# Altium schematic symbol library ICS_DIVERSOS.SchLib: 48 symbols (part 1 of 3)
Pins are listed as number, name and electrical type; pins without a type are passive.

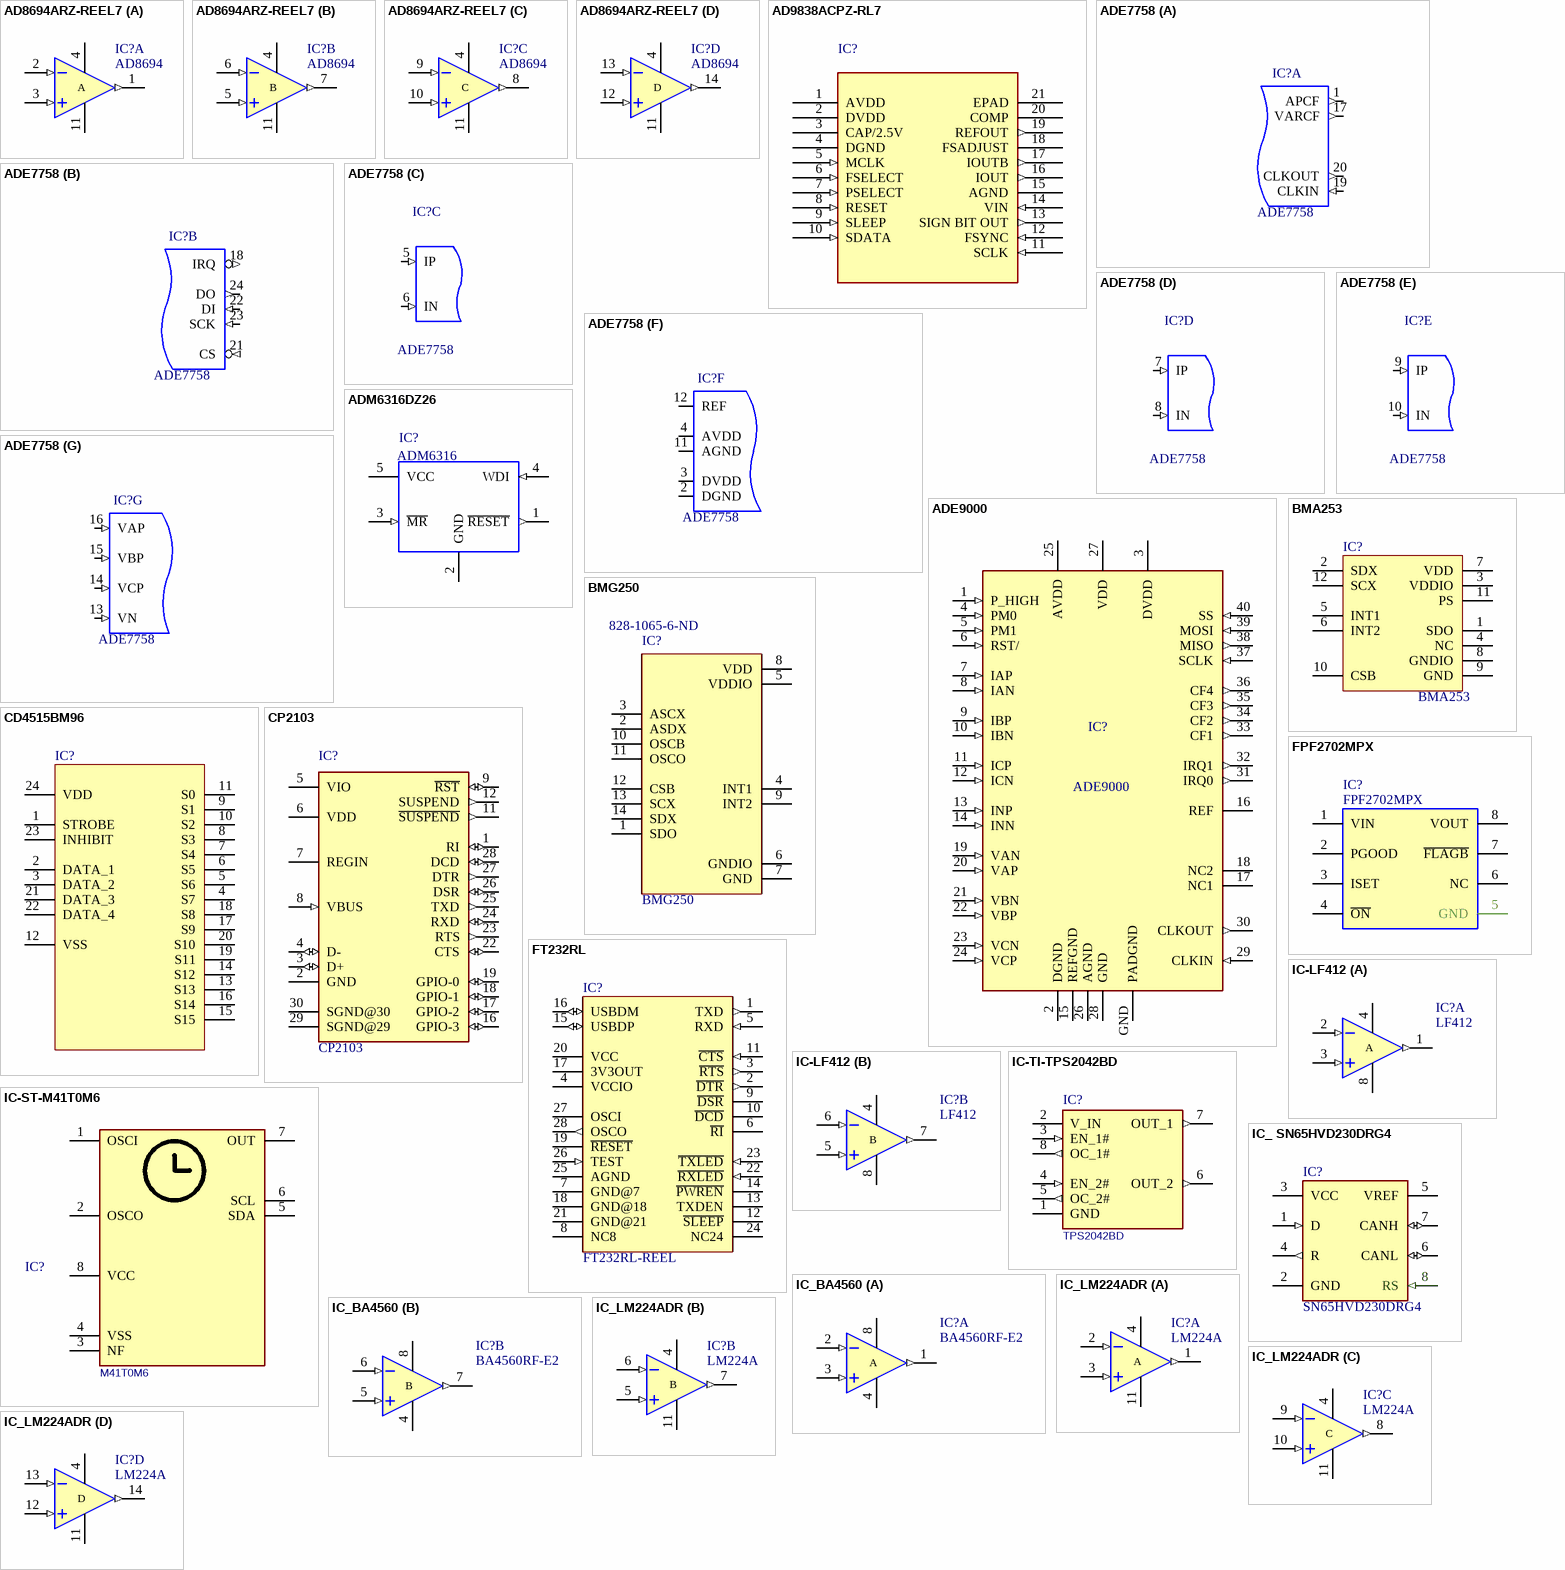
[diagram p0: symbols AD8694ARZ-REEL7 to IC_LM224ADR]

## AD8694ARZ-REEL7
designator IC?, comment AD8694
IC OPAMP GP 10MHZ RRO 14SOIC; MPN: AD8694ARZ-REEL7; Manufacturer: Analog Devices; Fabricante: ANALOG DEVICE; Min Supply Voltage: 2.7V; Max Supply Voltage: 6V; Common Mode Rejection Ratio: 90dB; Slew Rate: 5V/µs; Number of Circuits: 4; Input Bias Current: 1pA; Input Offset Voltage (Vos): 2mV; Operating Supply Current: 4.8mA; Output Current per Channel: 80mA; Input Voltage Noise Density: 8nV/sqrt Hz; Power Supply Rejection Ratio (PSRR): 95dB; Voltage Gain: 103.52dB; Quiescent Current: 950uA; Input Capacitance: 5pF; Settling Time: 1us; Footprint: NB SOIC 14; value: AD8694; ComponentLink1Description: datasheet; ComponentLink1URL: http://www.ti.com/lit/ds/symlink/lm324.pdf; ComponentLink2Description: LOJA; ComponentLink2URL: https://www.digikey.com/product-detail/en/analog-devices-inc/AD8694ARZ-REEL7/AD8694ARZ-REEL7CT-ND/4908801; Supplier 1: Digi-Key; Supplier Part Number 1: AD8694ARZ-REEL7CT-ND; Manufacturer Part Number: AD8694ARZ-REEL7; Stock 1: 729; Pricing 1: 1=2,80000, 10=2,51800, 25=2,37520, 100=1,90000, 250=1,66252, 500=1,61500 (USD); RoHS: Yes; Case/Package: R; Number of Pins: 14; Contact Plating: Tin,Matte; Min Operating Temperature: -40°C; Max Operating Temperature: 125°C; Gain Bandwidth Product: 10MHz; Package Quantity: 1000; Packaging: Tape and Reel; Unity Gain Bandwidth Product: 10MHz; Number of Channels: 4; Number of Elements: 4; Number of Amplifiers: 4; Radiation Hardening: No; Lead Free: Contains Lead; ComponentLink3URL: https://datasheet.ciiva.com/26846/ad8694arz-reel7-26846943.pdf?src-supplier=IIIC; ComponentLink3Description: https://datasheet.ciiva.com/26846/ad8694arz-reel7-26846943.pdf?src-supplier=IIIC; ComponentLink4URL: https://datasheet.ciiva.com/9043/ad8691-8692-8694-9043862.pdf?src-supplier=Avnet; ComponentLink4Description: https://datasheet.ciiva.com/9043/ad8691-8692-8694-9043862.pdf?src-supplier=Avnet; ComponentLink5URL: https://datasheet.ciiva.com/11712/ad8691-8692-8694-11712005.pdf?src-supplier=Avnet; ComponentLink5Description: https://datasheet.ciiva.com/11712/ad8691-8692-8694-11712005.pdf?src-supplier=Avnet
footprint NB SOIC-14 (SOIC, 14-Leads, Body 8.65x3.90mm, Pitch 1.27mm, IPC Medium Density)
part A pins: 1 1OUT (out), 2 1IN- (in), 3 1IN+ (in), 4 VDD (power), 11 VSS (power)
part B pins: 4 VDD (power), 5 2IN+ (in), 6 2IN- (in), 7 2OUT (out), 11 VSS (power)
part C pins: 4 VDD (power), 8 3OUT (out), 9 3IN- (in), 10 3IN+ (in), 11 VSS (power)
part D pins: 4 VDD (power), 11 VSS (power), 12 4IN+ (in), 13 4IN- (in), 14 4OUT (out)
part A text: A
part B text: B
part C text: C
part D text: D

## AD9838ACPZ-RL7
designator IC?  (value not drawn)
IC DDS 5MHZ 10BIT 20LFCSP; Manufacturer: Analog Devices; FABRICANTE: Analog Devices Inc; Number of Converters: 1; Resolution: 10b; Frequency: 16MHz; Signal to Noise Ratio (SNR): -63dB; Operating Supply Voltage: 5V; Power Dissipation: 11mW; Min Supply Voltage: 2.3V; Max Supply Voltage: 5.5V; Nominal Output Voltage: 600mV; Max Supply Current: 7mA; MPN: AD9838ACPZ-RL7; VALUE: AD9838ACPZ-RL7; Supplier 1: Digi-Key; Manufacturer Part Number: AD9838ACPZ-RL7; Stock 1: 1606; Pricing 1: 1=5,57000, 10=4,99800, 25=4,72520, 100=4,09500, 250=3,88500, 500=3,48600 (USD); RoHS: Yes; Mount: Surface Mount; Case/Package: LFCSP EP; Number of Pins: 20; Min Operating Temperature: -40°C; Max Operating Temperature: 85°C; Max Frequency: 5MHz; Packaging: Tape and Reel; Package Quantity: 1500; Number of Outputs: 1; Number of D/A Converters: 1; REACH SVHC: No SVHC; Lead Free: Contains Lead; ComponentLink1URL: https://datasheet.ciiva.com/8306/ad9838-8306288.pdf?src-supplier=Avnet; ComponentLink1Description: https://datasheet.ciiva.com/8306/ad9838-8306288.pdf?src-supplier=Avnet; ComponentLink2URL: https://datasheet.ciiva.com/24018/ad9838-259387-24018848.pdf?src-supplier=Mouser; ComponentLink2Description: https://datasheet.ciiva.com/24018/ad9838-259387-24018848.pdf?src-supplier=Mouser; ComponentLink3URL: https://datasheet.ciiva.com/18624/ad9838-18624901.pdf?src-supplier=Digi-Key; ComponentLink3Description: https://datasheet.ciiva.com/18624/ad9838-18624901.pdf?src-supplier=Digi-Key; Supplier Part Number 1: AD9838ACPZ-RL7CT-ND
footprint CP_20_10
pins: 1 AVDD (power), 2 DVDD (power), 3 CAP/2.5V, 4 DGND, 5 MCLK (in), 6 FSELECT (in), 7 PSELECT (in), 8 RESET (in), 9 SLEEP (in), 10 SDATA (in), 11 SCLK (in), 12 FSYNC (in), 13 SIGN BIT OUT (out), 14 VIN (in), 15 AGND, 16 IOUT (out), 17 IOUTB (out), 18 FSADJUST, 19 REFOUT (out), 20 COMP, 21 EPAD

## ADE7758
designator IC?
MEDIDOR DE ENERGIA 3PH - SOIC 24; Manufacturer: Analog Devices / Linear Technology; Manufacturer Part Number: LTC4100EG#TRPBF; Fabricante: ANALOG DEVICE; Interface: I2C; Min Supply Voltage: 3V; Max Supply Voltage: 5.5V; Output Voltage: 26V; Output Current: 4A; Max Input Voltage: 28V; Min Input Voltage: 6V; Number of Cells: 1; Fault Protection: Over Current,Over Voltage; Footprint: SOIC24; MPN: ADE7758; Value: ADE7758; RoHS: Yes; Case/Package: G; Number of Pins: 24; Min Operating Temperature: -40°C; Max Operating Temperature: 85°C; Packaging: Tape and Reel; Package Quantity: 1800; Max Charge Current: 4A; Radiation Hardening: No; Lead Free: Lead Free; ComponentLink1URL: https://datasheet.ciiva.com/1934/3155-1934145.pdf?src-supplier=Digi-Key; ComponentLink1Description: https://datasheet.ciiva.com/1934/3155-1934145.pdf?src-supplier=Digi-Key
footprint SOIC24
part A pins: 1 APCF (out), 17 VARCF (out), 19 CLKIN (in), 20 CLKOUT (out)
part B pins: 18 IRQ (out), 21 CS (in), 22 DI (in), 23 SCK (in), 24 DO (out)
part C pins: 5 IP (in), 6 IN (in)
part D pins: 7 IP (in), 8 IN (in)
part E pins: 9 IP (in), 10 IN (in)
part F pins: 2 DGND (power), 3 DVDD (power), 4 AVDD (power), 11 AGND (power), 12 REF (io)
part G pins: 13 VN (in), 14 VCP (in), 15 VBP (in), 16 VAP (in)

## ADE9000
designator IC?
ADI IC, Power Quality Monitoring AFE; Manufacturer Part Number: ADE9000ACPZ; Fabricante: Analog Devices; Number of Channels: 7; Footprint: LFCS40; MPN: ADE9000; Value: ADE9000; ComponentLink1Description: DATASHEET; ComponentLink1URL: https://www.analog.com/media/en/technical-documentation/data-sheets/ADE9000.pdf; ComponentLink2Description: LOJA; ComponentLink2URL: https://www.digikey.com/product-detail/en/analog-devices-inc/ADE9000ACPZ-RL/ADE9000ACPZ-RLCT-ND/6708825; Supplier 1: Digi-Key; Supplier Part Number 1: ADE9000ACPZ-ND; Manufacturer: Analog Devices; Stock 1: 60; Pricing 1: 1=13,42000, 10=12,33300, 25=11,82160, 100=9,90450, 250=9,26552 (USD); RoHS: No; Number of Pins: 40; Packaging: Tray; ComponentLink3URL: http://www.farnell.com/datasheets/2280571.pdf?src-supplier=Farnell; ComponentLink3Description: http://www.farnell.com/datasheets/2280571.pdf?src-supplier=Farnell; ComponentLink4URL: https://www.analog.com/media/en/technical-documentation/data-sheets/ADE9000.pdf?src-supplier=Digi-Key; ComponentLink4Description: https://www.analog.com/media/en/technical-documentation/data-sheets/ADE9000.pdf?src-supplier=Digi-Key
footprint LFCSP40
pins: 1 P_HIGH (in), 2 DGND (power), 3 DVDD (power), 4 PM0 (in), 5 PM1 (in), 6 RST/ (in), 7 IAP (in), 8 IAN (in), 9 IBP (in), 10 IBN (in), 11 ICP (in), 12 ICN (in), 13 INP (in), 14 INN (in), 15 REFGND (power), 16 REF (power), 17 NC1, 18 NC2, 19 VAN (in), 20 VAP (in), 21 VBN (in), 22 VBP (in), 23 VCN (in), 24 VCP (in), 25 AVDD (power), 26 AGND (power), 27 VDD (power), 28 GND (power), 29 CLKIN (in), 30 CLKOUT (out), 31 IRQ0 (out), 32 IRQ1 (out), 33 CF1 (out), 34 CF2 (out), 35 CF3 (out), 36 CF4 (out), 37 SCLK (in), 38 MISO (out), 39 MOSI (in), 40 SS (in), GND PADGND (power)

## ADM6316DZ26
designator IC?, comment ADM6316
Supervisory Circuits with Watchdog and Manual Reset in 5-Lead SOT-23; MPN: ADM6316DZ26; Manufacturer: Analog Devices; Manufacturer Part Number: ADM6316DZ26ARJZ-R7; Fabricante: ANALOG DEVICE; Value: ADM6316DZ26; Min Supply Voltage: 1V; Max Supply Voltage: 5.5V; Watchdog Timer: Yes; Max Reset Threshold Voltage: 2.669V; Min Reset Threshold Voltage: 2.591V; Max Supply Current: 20uA; Threshold Voltage: 2.63V; Number of Monitored Inputs: 1; Reset Delay Time: 2240ms; Reset: Active Low; Reset Timeout: 1.12s; Footprint: SOT-23-5; Supplier 1: Digi-Key; Supplier Part Number 1: ADM6316DZ26ARJZ-R7CT-ND; Stock 1: 3454; Pricing 1: 1=1,53000, 10=1,37800, 25=1,30000, 100=1,04000, 250=0,91000, 500=0,88400, 1000=0,75400 (USD); RoHS: Yes; Mount: Surface Mount; Case/Package: SOT; Number of Pins: 5; Min Operating Temperature: -40°C; Max Operating Temperature: 85°C; Package Quantity: 3000; Packaging: Tape and Reel; Nominal Supply Current: 20uA; Operating Supply Current: 20uA; Overvoltage Threshold: 2.669V; Undervoltage Threshold: 2.591V; Number of Elements: 1; Type: Simple Reset/Power-On Reset; Number of Voltages Monitored: 1; Radiation Hardening: No; Lead Free: Contains Lead; REACH SVHC: No SVHC; ComponentLink1URL: https://datasheet.ciiva.com/1969/adm6316-6317-6318-6319-6320-6321-6322-1969888.pdf?src-supplier=Digi-Key; ComponentLink1Description: https://datasheet.ciiva.com/1969/adm6316-6317-6318-6319-6320-6321-6322-1969888.pdf?src-supplier=Digi-Key; ComponentLink2URL: https://datasheet.ciiva.com/15106/getdatasheetpartid-711562-15106688.pdf?src-supplier=Verical; ComponentLink2Description: https://datasheet.ciiva.com/15106/getdatasheetpartid-711562-15106688.pdf?src-supplier=Verical; ComponentLink3URL: https://datasheet.ciiva.com/1969/adm6316-6317-6318-6319-6320-6321-6322-1969889.pdf?src-supplier=Digi-Key; ComponentLink3Description: https://datasheet.ciiva.com/1969/adm6316-6317-6318-6319-6320-6321-6322-1969889.pdf?src-supplier=Digi-Key; ComponentLink4URL: https://datasheet.ciiva.com/22666/1901161-22666261.pdf?src-supplier=Element14; ComponentLink4Description: https://datasheet.ciiva.com/22666/1901161-22666261.pdf?src-supplier=Element14; ComponentLink5URL: https://datasheet.ciiva.com/8133/adm6316-6317-6318-6319-6320-6321-6322-8133030.pdf?src-supplier=Avnet; ComponentLink5Description: https://datasheet.ciiva.com/8133/adm6316-6317-6318-6319-6320-6321-6322-8133030.pdf?src-supplier=Avnet; ComponentLink6URL: https://datasheet.ciiva.com/8133/adm6316-6317-6318-6319-6320-6321-6322-8133032.pdf?src-supplier=Avnet; ComponentLink6Description: https://datasheet.ciiva.com/8133/adm6316-6317-6318-6319-6320-6321-6322-8133032.pdf?src-supplier=Avnet; ComponentLink7URL: https://datasheet.ciiva.com/1969/adm6316-6317-6318-6319-6320-6321-6322-1969887.pdf?src-supplier=Digi-Key; ComponentLink7Description: https://datasheet.ciiva.com/1969/adm6316-6317-6318-6319-6320-6321-6322-1969887.pdf?src-supplier=Digi-Key; ComponentLink8URL: https://datasheet.ciiva.com/48695/001250226-da-01-en-ic-super-adm6316dz26arjz-r7-sot-23-5-adi-48695991.pdf?src-supplier=Conrad; ComponentLink8Description: https://datasheet.ciiva.com/48695/001250226-da-01-en-ic-super-adm6316dz26arjz-r7-sot-23-5-adi-48695991.pdf?src-supplier=Conrad
footprint SOT23-5 (SOT23, 5-Leads, Body 2,90x2,80mm, Pitch 0,95mm, IPC Medium Density)
pins: 1 ~{RESET} (out), 2 GND (power), 3 ~{MR} (in), 4 WDI (in), 5 VCC (power)

## BMA253
designator IC?
Accelerometer X, Y, Z Axis ±2g, 4g, 8g, 16g 8Hz ~ 1kHz 12-LGA (2x2); Manufacturer: Bosch Sensortec; MF: Bosch; Output Type: SPI,I2C; Axis: X, Y, Z; ComponentLink1Description: LOJA; ComponentLink1URL: https://www.digikey.com/product-detail/en/bosch-sensortec/BMA253/828-1071-1-ND/7164923; ComponentLink2Description: DATASHHET; ComponentLink2URL: https://ae-bst.resource.bosch.com/media/_tech/media/datasheets/BST-BMA253-DS000.pdf; Footprint: 12-LGA (2x2); MP: BMA253; Value: *; Supplier 1: Digi-Key; Supplier Part Number 1: 828-1071-1-ND; Manufacturer Part Number: BMA253; Stock 1: 72621; Pricing 1: 1=1,90000, 5=1,83200, 10=1,48800, 25=1,28200, 50=1,11040, 100=1,00730, 500=0,84706, 1000=0,75549, 5000=0,69300 (USD); RoHS: No; Mount: Surface Mount; Case/Package: LGA; Number of Pins: 12; Min Operating Temperature: -40°C; Max Operating Temperature: 85°C; Packaging: Tape and Reel; Bandwidth: 8Hz; ComponentLink3URL: https://ae-bst.resource.bosch.com/media/_tech/media/application_notes/BST-MAS-HS000-05.pdf?src-supplier=Digi-Key; ComponentLink3Description: https://ae-bst.resource.bosch.com/media/_tech/media/application_notes/BST-MAS-HS000-05.pdf?src-supplier=Digi-Key; ComponentLink4URL: https://ae-bst.resource.bosch.com/media/_tech/media/application_notes/BST-MAS-HS000.pdf?src-supplier=Digi-Key; ComponentLink4Description: https://ae-bst.resource.bosch.com/media/_tech/media/application_notes/BST-MAS-HS000.pdf?src-supplier=Digi-Key
footprint 12-LGA(2X2)
pins: 1 SDO, 2 SDX, 3 VDDIO (power), 4 NC, 5 INT1, 6 INT2, 7 VDD (power), 8 GNDIO (power), 9 GND (power), 10 CSB, 11 PS, 12 SCX

## BMG250
designator IC?  Supplier Part Number 1: 828-1065-6-ND
BMG250 Series 3.6 V 3200 Hz 850 µA Low Noise Low Power Triaxial Gyroscope-LGA-14; Manufacturer: Bosch Sensortec; Manufacturer Part Number: BMG250-SHUTL; MF: Bosch; Evaluation Kit: Yes; Interface: I2C,SPI; Sensor Type: Gyroscope,3 Axis; MP: BMG250; Footprint: LGA-14 Bosch Tools; Value: *; ComponentLink1Description: LOJA; ComponentLink1URL: https://www.digikey.com/product-detail/en/bosch-sensortec/BMG250/828-1065-2-ND/6187894; ComponentLink2Description: DATASHEET; ComponentLink2URL: https://ae-bst.resource.bosch.com/media/_tech/media/datasheets/BST-BMG250-DS000.pdf; RoHS: Yes; Supplier 1: Digi-Key
footprint LGA-14L
pins: 1 SDO, 2 ASDX, 3 ASCX, 4 INT1, 5 VDDIO (power), 6 GNDIO (power), 7 GND (power), 8 VDD (power), 9 INT2, 10 OSCB, 11 OSCO, 12 CSB, 13 SCX, 14 SDX

## CD4515BM96
designator IC?
Decoder/Demultiplexer 1 x 4:16 24-SOIC; MPN: CD4515BM96; FABRICANTE: Texas Instruments; Logic Function: Demultiplexer,Decoder; Number of Elements: 1; Number of Inputs: 4; Number of Outputs: 16; Max Supply Voltage: 18V; Min Supply Voltage: 3V; Propagation Delay: 370ns; High Level Output Current: -4.2mA; Low Level Output Current: 4.2mA; Polarity: Inverting; Turn-On Delay Time: 970ns; Quiescent Current: 100uA; Supply Type: Dual; Bandwidth: 8MHz; Value: *; ComponentLink1Description: LOJA; ComponentLink1URL: https://www.digikey.com/product-detail/en/texas-instruments/CD4515BM96/296-31531-1-ND/3505808; ComponentLink2Description: FABRICANTE; ComponentLink2URL: http://www.ti.com/general/docs/suppproductinfo.tsp?distId=10&gotoUrl=http%3A%2F%2Fwww.ti.com%2Flit%2Fgpn%2Fcd4514b; FOOTPRINT: 24 SOIC; Supplier 1: Digi-Key; Supplier Part Number 1: 296-31531-1-ND; Manufacturer: Texas Instruments; Manufacturer Part Number: CD4515BM96; Stock 1: 9588; Pricing 1: 1=0,92000, 10=0,82600, 25=0,78400, 100=0,64400, 250=0,60200, 500=0,53200, 1000=0,42000 (USD); RoHS: Yes; Mount: Surface Mount; Case/Package: SOIC; Number of Pins: 24; Weight: 0.022025oz; Contact Plating: Gold; Min Operating Temperature: -55°C; Max Operating Temperature: 125°C; Packaging: Tape and Reel; Package Quantity: 2000; Number of Input Lines: 4; Number of Output Lines: 16; Independent Circuits: 1; Number of Bits: 16; Number of Channels: 4; Radiation Hardening: No; Lead Free: Lead Free; ComponentLink3URL: https://datasheet.ciiva.com/6619/cd4514b-6619269.pdf?src-supplier=Digi-Key; ComponentLink3Description: https://datasheet.ciiva.com/6619/cd4514b-6619269.pdf?src-supplier=Digi-Key; ComponentLink4URL: https://datasheet.ciiva.com/6619/cd4514b-6619271.pdf?src-supplier=Digi-Key; ComponentLink4Description: https://datasheet.ciiva.com/6619/cd4514b-6619271.pdf?src-supplier=Digi-Key
footprint SOIC24
pins: 1 STROBE, 2 DATA_1, 3 DATA_2, 4 S7, 5 S6, 6 S5, 7 S4, 8 S3, 9 S1, 10 S2, 11 S0, 12 VSS, 13 S13, 14 S12, 15 S15, 16 S14, 17 S9, 18 S8, 19 S11, 20 S10, 21 DATA_3, 22 DATA_4, 23 INHIBIT, 24 VDD

## CP2103
designator IC?
USB to UART Bridge; Manufacturer Part Number: CP2103-GM; Fabricante: Silicon Labs; Operating Supply Voltage: 3.3V; Number of Channels: 1; Data Rate: 1Mbps; Nominal Supply Current: 26mA; Max Supply Voltage: 3.6V; Min Supply Voltage: 3V; Operating Supply Current: 20mA; USB Standard: USB 2.0; Footprint: QFN28; MPN: CP2103; Value: CP2103; Supplier 1: Digi-Key; Supplier Part Number 1: 336-1164-ND; Manufacturer: Silicon Labs; Stock 1: 9084; Pricing 1: 1=4,26000, 25=4,10160, 100=3,96250 (USD); RoHS: Yes; Case/Package: QFN; Number of Pins: 28; Weight: 0.00239oz; Min Operating Temperature: -40°C; Max Operating Temperature: 85°C; Packaging: Rail/Tube; Package Quantity: 73; Number of Transceivers: 1; Length: 5mm; Height: 0.88mm; Width: 5mm; Radiation Hardening: No; Lead Free: Lead Free; REACH SVHC: Unknown; ComponentLink1URL: https://datasheet.ciiva.com/4783/cp2103-33051-4783222.pdf?src-supplier=Mouser; ComponentLink1Description: https://datasheet.ciiva.com/4783/cp2103-33051-4783222.pdf?src-supplier=Mouser; ComponentLink2URL: https://datasheet.ciiva.com/1157/1525365-1157175.pdf?src-supplier=Newark; ComponentLink2Description: https://datasheet.ciiva.com/1157/1525365-1157175.pdf?src-supplier=Newark; ComponentLink3URL: https://datasheet.ciiva.com/1148/606090-1148858.pdf?src-supplier=Element14; ComponentLink3Description: https://datasheet.ciiva.com/1148/606090-1148858.pdf?src-supplier=Element14; ComponentLink4URL: https://datasheet.ciiva.com/3149/+cp2103-3149770.pdf?src-supplier=Avnet; ComponentLink4Description: https://datasheet.ciiva.com/3149/+cp2103-3149770.pdf?src-supplier=Avnet; ComponentLink5URL: https://datasheet.ciiva.com/15134/getdatasheetpartid-241241-15134527.pdf?src-supplier=Verical; ComponentLink5Description: https://datasheet.ciiva.com/15134/getdatasheetpartid-241241-15134527.pdf?src-supplier=Verical; ComponentLink6URL: https://datasheet.ciiva.com/17069/0900766b8065a806-17069887.pdf?src-supplier=Allied+Electronics; ComponentLink6Description: https://datasheet.ciiva.com/17069/0900766b8065a806-17069887.pdf?src-supplier=Allied+Electronics; ComponentLink7URL: https://datasheet.ciiva.com/26840/cp2103-gm-26840393.pdf?src-supplier=IIIC; ComponentLink7Description: https://datasheet.ciiva.com/26840/cp2103-gm-26840393.pdf?src-supplier=IIIC
footprint QFN28
pins: 1 RI (io), 2 GND (power), 3 D+ (io), 4 D- (io), 5 VIO (power), 6 VDD (power), 7 REGIN (power), 8 VBUS (in), 9 ~{RST} (io), 11 ~{SUSPEND} (out), 12 SUSPEND (out), 16 GPIO-3 (io), 17 GPIO-2 (io), 18 GPIO-1 (io), 19 GPIO-0 (io), 22 CTS (io), 23 RTS (out), 24 RXD (io), 25 TXD (out), 26 DSR (io), 27 DTR (out), 28 DCD (io), 29 SGND@29 (power), 30 SGND@30 (power)

## FPF2702MPX
designator IC?
Power Switch/Driver 1:1 N-Channel 2A 8-MLP (3x3); Manufacturer: ON Semiconductor / Fairchild; Number of Outputs: 1; Max Power Dissipation: 1.25W; Interface: On/Off; On-State Resistance: 88mR; Max Input Voltage: 36V; Min Input Voltage: 2.8V; Output Configuration: High Side; Fault Protection: Over Temperature; ComponentLink1Description: LOJA; ComponentLink1URL: https://www.digikey.com/product-detail/en/on-semiconductor/FPF2702MPX/FPF2702MPXCT-ND/3908182; ComponentLink2Description: DATASHEET; ComponentLink2URL: https://www.onsemi.com/pub/Collateral/FPF2702-D.pdf; Supplier 1: Digi-Key; Supplier Part Number 1: FPF2702MPXCT-ND; Manufacturer Part Number: FPF2702MPX; Stock 1: 0; Pricing 1: 1=2,63000, 10=2,35900, 25=2,22520, 100=1,78000, 250=1,55752, 500=1,51300, 1000=1,24600 (USD); RoHS: Yes; Mount: Surface Mount; Number of Pins: 8; Weight: 0.151g; Min Operating Temperature: -40°C; Max Operating Temperature: 85°C; Output Current: 2A; Packaging: Tape and Reel; Package Quantity: 3000; Max Output Current: 2A; Operating Supply Voltage: 36V; Number of Inputs: 1; Length: 3mm; Height: 0.75mm; Width: 3mm; Lead Free: Lead Free; REACH SVHC: No SVHC; ComponentLink3URL: https://datasheet.ciiva.com/25902/fpf2702-25902296.pdf?src-supplier=Avnet+Europe; ComponentLink3Description: https://datasheet.ciiva.com/25902/fpf2702-25902296.pdf?src-supplier=Avnet+Europe; ComponentLink4URL: https://datasheet.ciiva.com/17278/fpf2702-17278021.pdf?src-supplier=Future+Electronics; ComponentLink4Description: https://datasheet.ciiva.com/17278/fpf2702-17278021.pdf?src-supplier=Future+Electronics; ComponentLink5URL: https://datasheet.ciiva.com/1512/1785288-1512488.pdf?src-supplier=Element14; ComponentLink5Description: https://datasheet.ciiva.com/1512/1785288-1512488.pdf?src-supplier=Element14; ComponentLink6URL: https://datasheet.ciiva.com/3216/fpf2702-3216924.pdf?src-supplier=Avnet; ComponentLink6Description: https://datasheet.ciiva.com/3216/fpf2702-3216924.pdf?src-supplier=Avnet
footprint MLP-8 (MLP, 8-Leads, Body 3,00x3,00mm, Pitch 0,65mm, Thermal Pad 2,45x1,72mm, IPC Medium Density)
pins: 1 VIN, 2 PGOOD, 3 ISET, 4 ~{ON} "ON", 5 GND "PGOOD", 6 NC, 7 ~{FLAGB} "FLAGB", 8 VOUT

## FT232RL
designator IC?, comment FT232RL-REEL
TTL USB TO SERIAL CONVERTER; Manufacturer: FTDI; Fabricante: FTDI CHIP; Number of Channels: 1; Max Supply Voltage: 5.25V; Min Supply Voltage: 3.3V; Data Rate: 12Mbps; Interface: UART,RS-232,RS-422,RS-485; Operating Supply Current: 15mA; Voltage: 5V; ComponentLink1Description: LOJA; ComponentLink1URL: https://www.digikey.com/product-detail/en/ftdi-future-technology-devices-international-ltd/FT232RL-REEL/768-1007-1-ND/1836402; Footprint: SSOP-28; MPN: FT232RL-REEL; ComponentLink2Description: DATASHEET; ComponentLink2URL: https://www.ftdichip.com/Support/Documents/DataSheets/ICs/DS_FT232R.pdf; Supplier 1: Digi-Key; Supplier Part Number 1: 768-1007-1-ND; Manufacturer Part Number: FT232RL-REEL; Stock 1: 53451; Pricing 1: 1=4,50000, 10=4,05000, 50=3,85000, 100=3,65000, 250=3,25000, 500=2,85002, 1000=2,65000 (USD); RoHS: Yes; Mount: Surface Mount; Case/Package: SSOP; Number of Pins: 28; Weight: 0.080001oz; Min Operating Temperature: -40°C; Max Operating Temperature: 85°C; Packaging: Tape and Reel; Package Quantity: 2000; Number of Transceivers: 1; Length: 10.2mm; Height: 1.75mm; Width: 5.3mm; Radiation Hardening: No; Lead Free: Lead Free; REACH SVHC: No SVHC; ComponentLink3URL: https://datasheet.ciiva.com/34304/2161019-34304054.pdf?src-supplier=Jameco; ComponentLink3Description: https://datasheet.ciiva.com/34304/2161019-34304054.pdf?src-supplier=Jameco; ComponentLink4URL: https://datasheet.ciiva.com/4787/ds-ft232r-11534-4787658.pdf?src-supplier=Mouser; ComponentLink4Description: https://datasheet.ciiva.com/4787/ds-ft232r-11534-4787658.pdf?src-supplier=Mouser; ComponentLink5URL: https://datasheet.ciiva.com/26841/ft232rl-reel-26841080.pdf?src-supplier=IIIC; ComponentLink5Description: https://datasheet.ciiva.com/26841/ft232rl-reel-26841080.pdf?src-supplier=IIIC; ComponentLink6URL: https://datasheet.ciiva.com/1787/ds-ft232r-1787047.pdf?src-supplier=Digi-Key; ComponentLink6Description: https://datasheet.ciiva.com/1787/ds-ft232r-1787047.pdf?src-supplier=Digi-Key; ComponentLink7URL: https://datasheet.ciiva.com/1787/ds-ft232r-1787048.pdf?src-supplier=Digi-Key; ComponentLink7Description: https://datasheet.ciiva.com/1787/ds-ft232r-1787048.pdf?src-supplier=Digi-Key; ComponentLink8URL: https://datasheet.ciiva.com/1787/ds-ft232r-1787049.pdf?src-supplier=Digi-Key; ComponentLink8Description: https://datasheet.ciiva.com/1787/ds-ft232r-1787049.pdf?src-supplier=Digi-Key; ComponentLink9URL: https://datasheet.ciiva.com/15150/getdatasheetpartid-643207-15150506.pdf?src-supplier=Verical; ComponentLink9Description: https://datasheet.ciiva.com/15150/getdatasheetpartid-643207-15150506.pdf?src-supplier=Verical; ComponentLink10URL: https://datasheet.ciiva.com/16200/ds-ft232r-16200652.pdf?src-supplier=Future+Electronics; ComponentLink10Description: https://datasheet.ciiva.com/16200/ds-ft232r-16200652.pdf?src-supplier=Future+Electronics; Value: FT232RL-REEL
footprint SSOP-28 (FT232)
pins: 1 TXD (out), 2 ~{DTR} (out), 3 ~{RTS} (out), 4 VCCIO (power), 5 RXD (in), 6 ~{RI}, 7 GND@7 (power), 8 NC8, 9 ~{DSR}, 10 ~{DCD}, 11 ~{CTS} (in), 12 ~{SLEEP}, 13 TXDEN, 14 ~{PWREN}, 15 USBDP (io), 16 USBDM (io), 17 3V3OUT (power), 18 GND@18 (power), 19 ~{RESET}, 20 VCC (power), 21 GND@21 (power), 22 ~{RXLED} (in), 23 ~{TXLED} (in), 24 NC24, 25 AGND (power), 26 TEST (in), 27 OSCI, 28 OSCO (out)

## IC-LF412
designator IC?, comment LF412
Dual Precision JFET-Input Operational Amplifier, DIP 8PIN; MPN: LF412ACN/NOPB; Manufacturer: TI National Semiconductor; Fabricante: texas; Voltage Gain: 106.02dB; Min Dual Supply Voltage: 5V; Gain Bandwidth Product: 4MHz; Bandwidth: 3MHz; Slew Rate: 15V/µs; Nominal Supply Current: 3.6mA; Dual Supply Voltage: 9V; Common Mode Rejection Ratio: 80dB; Max Dual Supply Voltage: 22V; Number of Channels: 2; Input Offset Voltage (Vos): 1mV; Input Bias Current: 200pA; Gain: 4dB; Output Current: 25mA; Power Dissipation: 670mW; Min Supply Voltage: 10V; Max Supply Current: 5.6mA; Footprint: DIP 8; value: *; ComponentLink1Description: loja; ComponentLink1URL: https://www.digikey.com/product-detail/en/texas-instruments/LF412ACN-NOPB/LF412ACN-NOPB-ND/148071; ComponentLink2Description: Datasheet; ComponentLink2URL: http://www.ti.com/lit/ds/symlink/lf412-n.pdf; Supplier 1: Digi-Key; Supplier Part Number 1: LF412ACN/NOPB-ND; Manufacturer Part Number: LF412ACN/NOPB; Stock 1: 1448; Pricing 1: 1=4,43000, 10=3,97900, 25=3,76200, 100=3,09320, 250=2,77552, 500=2,67520, 1000=2,22376 (USD); RoHS: Yes; Mount: Through Hole; Case/Package: PDIP; Number of Pins: 8; Weight: 0.01lb; Contact Plating: Tin,Matte; Min Operating Temperature: 0°C; Max Operating Temperature: 70°C; Packaging: Rail/Tube; Unity Gain Bandwidth Product: 4MHz; Package Quantity: 40; Operating Supply Current: 3.6mA; Number of Circuits: 2; Number of Elements: 2; Number of Amplifiers: 2; Power Supply Rejection Ratio (PSRR): 80dB; Max Power Dissipation: 670mW; Max Supply Voltage: 22V; Length: 9.27mm; Height: 3.3mm; Width: 6.35mm; Radiation Hardening: No; REACH SVHC: No SVHC; Lead Free: Lead Free; ComponentLink3URL: https://datasheet.ciiva.com/29042/835518-29042887.pdf?src-supplier=Jameco; ComponentLink3Description: https://datasheet.ciiva.com/29042/835518-29042887.pdf?src-supplier=Jameco; ComponentLink4URL: https://datasheet.ciiva.com/14151/chlf412-data-e-14151304.pdf?src-supplier=Distrelec; ComponentLink4Description: https://datasheet.ciiva.com/14151/chlf412-data-e-14151304.pdf?src-supplier=Distrelec; ComponentLink5URL: https://datasheet.ciiva.com/6626/lf412-n-6626687.pdf?src-supplier=Digi-Key; ComponentLink5Description: https://datasheet.ciiva.com/6626/lf412-n-6626687.pdf?src-supplier=Digi-Key; ComponentLink6URL: https://datasheet.ciiva.com/48707/001010660-da-01-en-ic-op-amp-dual-lf412acn-nopb-pdip-8-tid-48707190.pdf?src-supplier=Conrad; ComponentLink6Description: https://datasheet.ciiva.com/48707/001010660-da-01-en-ic-op-amp-dual-lf412acn-nopb-pdip-8-tid-48707190.pdf?src-supplier=Conrad
simulation model LF412A (SUBCKT)
footprint DIP8 (DIP; 8 Leads; Row Spacing 7.62 mm; Pitch 2.54 mm)
part A pins: 1 1OUT (out), 2 1IN- (in), 3 1IN+ (in), 4 VSS (power), 8 VDD (power)
part B pins: 4 VSS (power), 5 2IN+ (in), 6 2IN- (in), 7 2OUT (out), 8 VDD (power)
part A text: A
part B text: B

## IC-ST-M41T0M6
designator IC?, comment M41T0M6
IC RTC CLK/CALENDAR I2C 8-SOIC; Manufacturer: STMicroelectronics; Manufacturer Part Number: M41T0M6F; Fabricante: ST; Logic Function: Clock; Time Format: HH:MM:SS; Max Supply Voltage: 5.5V; Min Supply Voltage: 2V; Non-volatile Memory Size: 8B; Interface: I2C,Serial,2-Wire; Date Format: YY-MM-DD-dd; Footprint: SOIC 8; Value: M41T0M6; ComponentLink1Description: LOJA; ComponentLink1URL: https://www.digikey.com/product-detail/en/stmicroelectronics/M41T0M6F/497-4698-1-ND/868980; ComponentLink2Description: DATASHEET; ComponentLink2URL: https://www.st.com/content/ccc/resource/technical/document/datasheet/19/24/95/e2/85/6a/47/30/CD00003139.pdf/files/CD00003139.pdf/jcr:content/translations/en.CD00003139.pdf; Supplier 1: Digi-Key; Supplier Part Number 1: 497-4698-1-ND; Stock 1: 4538; Pricing 1: 1=1,93000, 10=1,73600, 25=1,63760, 100=1,39520, 250=1,31000, 500=1,14626, 1000=0,94975 (USD); RoHS: Yes; Mount: Surface Mount; Case/Package: SOIC; Number of Pins: 8; Weight: 0.019048oz; Min Operating Temperature: -40°C; Max Operating Temperature: 85°C; Packaging: Tape and Reel; Package Quantity: 2500; Memory Size: 8B; Length: 5mm; Height: 1.5mm; Width: 4mm; Radiation Hardening: No; Lead Free: Lead Free; ComponentLink3URL: https://datasheet.ciiva.com/25969/cd00003139-25969712.pdf?src-supplier=Avnet+Europe; ComponentLink3Description: https://datasheet.ciiva.com/25969/cd00003139-25969712.pdf?src-supplier=Avnet+Europe; ComponentLink4URL: https://datasheet.ciiva.com/4772/cd00003139-81284-4772149.pdf?src-supplier=Mouser; ComponentLink4Description: https://datasheet.ciiva.com/4772/cd00003139-81284-4772149.pdf?src-supplier=Mouser; ComponentLink5URL: https://datasheet.ciiva.com/41459/001185346-da-01-en-ic-rtc-serial-2-5-5v-m41t0m6f-soic-8-stm-41459817.pdf?src-supplier=Conrad; ComponentLink5Description: https://datasheet.ciiva.com/41459/001185346-da-01-en-ic-rtc-serial-2-5-5v-m41t0m6f-soic-8-stm-41459817.pdf?src-supplier=Conrad; ComponentLink6URL: https://datasheet.ciiva.com/26795/m41t0m6f-26795471.pdf?src-supplier=IIIC; ComponentLink6Description: https://datasheet.ciiva.com/26795/m41t0m6f-26795471.pdf?src-supplier=IIIC; ComponentLink7URL: https://datasheet.ciiva.com/15152/getdatasheetpartid-98630-15152779.pdf?src-supplier=Verical; ComponentLink7Description: https://datasheet.ciiva.com/15152/getdatasheetpartid-98630-15152779.pdf?src-supplier=Verical; MPN: M41T0M6
footprint SOIC8_150MIL
pins: 1 OSCI, 2 OSCO, 3 NF, 4 VSS, 5 SDA, 6 SCL, 7 OUT, 8 VCC

## IC-TI-TPS2042BD
designator IC?, comment TPS2042BD
Dual High Side Switch With OC_DET 500mA/CH; Fabricante: Texas Instruments; Max Supply Voltage: 5.5V; Min Supply Voltage: 2.7V; Number of Outputs: 2; Max Power Dissipation: 585.82mW; On-State Resistance: 70mR; Output Current: 500mA; Max Output Voltage: 6V; Power Dissipation: 586mW; Value: TPS2042BD; Footprint: *; ComponentLink1Description: loja; ComponentLink1URL: https://www.digikey.com/product-detail/en/texas-instruments/TPS2042BDR/296-17002-1-ND/656532; ComponentLink2Description: datasheet; ComponentLink2URL: http://www.ti.com/lit/ds/symlink/tps2051b.pdf; Supplier 1: Digi-Key; Supplier Part Number 1: 296-26908-5-ND; Manufacturer: Texas Instruments; Manufacturer Part Number: TPS2042BD; Stock 1: 501; Pricing 1: 1=1,38000, 10=1,23600, 25=1,17320, 100=0,90090, 250=0,79612, 500=0,75420, 1000=0,58660, 2500=0,55727 (USD); RoHS: Yes; Case/Package: D; Number of Pins: 8; Weight: 0.002561oz; Min Operating Temperature: -40°C; Max Operating Temperature: 85°C; Package Quantity: 75; Packaging: Rail/Tube; Max Input Voltage: 5.5V; Min Input Voltage: 2.7V; Max Output Current: 500mA; Termination: SMD/SMT; Length: 4.9mm; Height: 1.58mm; Width: 3.91mm; Radiation Hardening: No; Lead Free: Lead Free; REACH SVHC: No SVHC; ComponentLink3URL: https://datasheet.ciiva.com/22734/1633884-22734993.pdf?src-supplier=Farnell; ComponentLink3Description: https://datasheet.ciiva.com/22734/1633884-22734993.pdf?src-supplier=Farnell; ComponentLink4URL: https://datasheet.ciiva.com/15108/getdatasheetpartid-189043-15108435.pdf?src-supplier=Verical; ComponentLink4Description: https://datasheet.ciiva.com/15108/getdatasheetpartid-189043-15108435.pdf?src-supplier=Verical; ComponentLink5URL: https://datasheet.ciiva.com/19456/827921-19456013.pdf?src-supplier=Jameco; ComponentLink5Description: https://datasheet.ciiva.com/19456/827921-19456013.pdf?src-supplier=Jameco; ComponentLink6URL: https://datasheet.ciiva.com/1512/1633884-1512647.pdf?src-supplier=Element14; ComponentLink6Description: https://datasheet.ciiva.com/1512/1633884-1512647.pdf?src-supplier=Element14; ComponentLink7URL: https://datasheet.ciiva.com/26071/tps2051b-26071607.pdf?src-supplier=Avnet+Europe; ComponentLink7Description: https://datasheet.ciiva.com/26071/tps2051b-26071607.pdf?src-supplier=Avnet+Europe; ComponentLink8URL: https://datasheet.ciiva.com/1963/tps2051b-1963208.pdf?src-supplier=Digi-Key; ComponentLink8Description: https://datasheet.ciiva.com/1963/tps2051b-1963208.pdf?src-supplier=Digi-Key; MPN: TPS2042BD
footprint SOIC8_150MIL
pins: 1 GND (power), 2 V_IN (power), 3 EN_1# (in), 4 EN_2# (in), 5 OC_2# (out), 6 OUT_2 (out), 7 OUT_1 (out), 8 OC_1# (out)

## IC_ SN65HVD230DRG4
designator IC?, comment SN65HVD230DRG4
IC TRANSCEIVER HALF 1/1 8SOIC; Manufacturer: Texas Instruments; Fabricante: TEXAS; Data Rate: 1Mbps; Max Supply Voltage: 3.6V; Operating Supply Voltage: 3.3V; Min Supply Voltage: 3V; Nominal Supply Current: 17mA; Number of Transceivers: 1; Simplex/Duplex: Half Duplex; Receiver Hysteresis: 100mV; MPN: SN65HVD230DRG4; Footprint: SOIC 8; VALUE: SN65HVD230DRG4; ComponentLink1Description: LOJA; ComponentLink1URL: https://www.digikey.com/product-detail/en/texas-instruments/SN65HVD230DRG4/296-37663-1-ND/4833896; ComponentLink2Description: DATASHEET; ComponentLink2URL: http://www.ti.com/lit/ds/symlink/sn65hvd230.pdf?HQS=TI-null-null-digikeymode-df-pf-null-wwe&ts=1590090119374; Supplier 1: Digi-Key; Supplier Part Number 1: 296-37663-1-ND; Manufacturer Part Number: SN65HVD230DRG4; Stock 1: 3217; Pricing 1: 1=2,18000, 10=1,96100, 25=1,85000, 100=1,48000, 250=1,29500, 500=1,25800, 1000=0,99900 (USD); RoHS: Yes; Case/Package: D; Number of Pins: 8; Weight: 0.002561oz; Min Operating Temperature: -40°C; Max Operating Temperature: 85°C; Package Quantity: 2500; Packaging: Tape and Reel; Number of Drivers: 1; Number of Receivers: 1; Radiation Hardening: No; Lead Free: Lead Free; ComponentLink3URL: http://components.arrow.com/part/dataview/0323_00125474?src-supplier=Arrow+Europe; ComponentLink3Description: http://components.arrow.com/part/dataview/0323_00125474?src-supplier=Arrow+Europe; ComponentLink4URL: http://www.ti.com/lit/ds/symlink/sn65hvd230.pdf?src-supplier=Digi-Key; ComponentLink4Description: http://www.ti.com/lit/ds/symlink/sn65hvd230.pdf?src-supplier=Digi-Key; ComponentLink5URL: http://components.arrow.com/part/dataview/41628542S477892N7713?src-supplier=Arrow; ComponentLink5Description: http://components.arrow.com/part/dataview/41628542S477892N7713?src-supplier=Arrow; ComponentLink6URL: http://www.ti.com/general/docs/lit/getliterature.tsp?genericPartNumber=SN65HVD232&&fileType=pdf&src-supplier=Avnet; ComponentLink6Description: http://www.ti.com/general/docs/lit/getliterature.tsp?genericPartNumber=SN65HVD232&&fileType=pdf&src-supplier=Avnet; ComponentLink7URL: http://www.ti.com/lit/gpn/sn65hvd230?src-supplier=Mouser; ComponentLink7Description: http://www.ti.com/lit/gpn/sn65hvd230?src-supplier=Mouser; ComponentLink8URL: http://www.ti.com/general/docs/lit/getliterature.tsp?genericPartNumber=SN65HVD230&amp;&amp;fileType=pdf&src-supplier=Newark; ComponentLink8Description: http://www.ti.com/general/docs/lit/getliterature.tsp?genericPartNumber=SN65HVD230&amp;&amp;fileType=pdf&src-supplier=Newark; ComponentLink9URL: http://www.ti.com/lit/ds/slos346k/slos346k.pdf?src-supplier=Avnet+Europe; ComponentLink9Description: http://www.ti.com/lit/ds/slos346k/slos346k.pdf?src-supplier=Avnet+Europe; ComponentLink10URL: https://www.verical.com/server-webapp/html/getDatasheet?partID=736344&src-supplier=Verical; ComponentLink10Description: https://www.verical.com/server-webapp/html/getDatasheet?partID=736344&src-supplier=Verical
footprint SOIC8_150MIL
pins: 1 D (in) "CAN transmit data input", 2 GND (power) "Ground connection", 3 VCC (power) "SUPPLY VOLTAGE", 4 R (out) "CAN receive data output", 5 VREF (power) "VCC / 2 reference output pin", 6 CANL (io) "Low level CAN bus line", 7 CANH (io) "High level CAN bus line", 8 RS (in) "Mode select pin:"

## IC_BA4560
designator IC?, comment BA4560RF-E2
IC OPAMP GP 4MHZ 8SOP, LOW NOISE; Manufacturer: Rohm; Fabricante: Rohm Semiconductor; Number of Circuits: 2; Operating Supply Voltage: 15V; Input Bias Current: 50nA; Input Offset Voltage (Vos): 6mV; Operating Supply Current: 3mA; Output Current per Channel: 25mA; Power Dissipation: 590mW; Min Supply Voltage: 8V; Max Supply Voltage: 30V; Voltage Gain: 100dB; Slew Rate: 4V/µs; Common Mode Rejection Ratio: 70dB; Min Dual Supply Voltage: 4V; Nominal Supply Current: 7.5mA; MPN: BA4560RF-E2; Footprint: SOP 8; value: BA4560RF-E2; ComponentLink1Description: LOJA; ComponentLink1URL: https://www.digikey.com/product-detail/en/rohm-semiconductor/BA4560RF-E2/BA4560RF-E2CT-ND/789238; ComponentLink2Description: Datasheet; ComponentLink2URL: http://rohmfs.rohm.com/en/products/databook/datasheet/ic/amp_linear/opamp/ba4560xxx-e.pdf; Supplier 1: Digi-Key; Supplier Part Number 1: BA4560RF-E2CT-ND; Manufacturer Part Number: BA4560RF-E2; Stock 1: 8398; Pricing 1: 1=0,63000, 10=0,55900, 25=0,52480, 100=0,39790, 250=0,33860, 500=0,32168, 1000=0,24549 (USD); RoHS: Yes; Mount: Surface Mount; Case/Package: SOP; Number of Pins: 8; Min Operating Temperature: -40°C; Max Operating Temperature: 105°C; Gain Bandwidth Product: 4MHz; Number of Elements: 2; Max Dual Supply Voltage: 15V; Package Quantity: 1; Packaging: Tape and Reel; Number of Channels: 2; Radiation Hardening: No; Lead Free: Lead Free; ComponentLink3URL: https://datasheet.ciiva.com/1793/ba4558f-e-1793056.pdf?src-supplier=Digi-Key; ComponentLink3Description: https://datasheet.ciiva.com/1793/ba4558f-e-1793056.pdf?src-supplier=Digi-Key; ComponentLink4URL: https://datasheet.ciiva.com/26878/getdatasheetpartid-427157-26878746.pdf?src-supplier=Verical; ComponentLink4Description: https://datasheet.ciiva.com/26878/getdatasheetpartid-427157-26878746.pdf?src-supplier=Verical; ComponentLink5URL: https://datasheet.ciiva.com/13044/ba4560rf-e-210260-13044844.pdf?src-supplier=Mouser; ComponentLink5Description: https://datasheet.ciiva.com/13044/ba4560rf-e-210260-13044844.pdf?src-supplier=Mouser
footprint SOP8 (SOP, 8-Leads, Body 5,00x4,40mm, Pitch 1,27mm, IPC Medium Density)
part A pins: 1 1OUT (out), 2 1IN- (in), 3 1IN+ (in), 4 VSS (power), 8 VDD (power)
part B pins: 4 VSS (power), 5 2IN+ (in), 6 2IN- (in), 7 2OUT (out), 8 VDD (power)
part A text: A
part B text: B

## IC_LM224ADR
designator IC?, comment LM224A
Quadruple Operational Amplifiers.SOIC 14; MPN: LM224ADR; Manufacturer: Texas Instruments; Fabricante: TEXAS; Number of Circuits: 4; Gain Bandwidth Product: 1.2MHz; Input Bias Current: 80nA; Input Offset Voltage (Vos): 3mV; Operating Supply Current: 1.4mA; Output Current per Channel: 40mA; Slew Rate: 0.5V/µs; Common Mode Rejection Ratio: 70dB; Max Supply Voltage: 32V; Min Supply Voltage: 3V; Output Current: 30mA; Max Dual Supply Voltage: 16V; Min Dual Supply Voltage: 1.5V; Nominal Supply Current: 3mA; Voltage Gain: 100dB; Dual Supply Voltage: 9V; Footprint: NB SOIC 14; value: *; ComponentLink1Description: LOJA; ComponentLink1URL: https://www.digikey.com/product-detail/en/texas-instruments/LM224ADR/296-7029-1-ND/405248; Supplier 1: Digi-Key; Supplier Part Number 1: 296-7029-1-ND; Manufacturer Part Number: LM224ADR; Stock 1: 21499; Pricing 1: 1=0,35000, 10=0,28200, 25=0,25800, 100=0,17400, 250=0,14400, 500=0,13200, 1000=0,09900 (USD); RoHS: Yes; Mount: Surface Mount; Case/Package: SOIC; Number of Pins: 14; Contact Plating: Gold; Min Operating Temperature: -25°C; Max Operating Temperature: 85°C; Packaging: Tape and Reel; Number of Elements: 4; Package Quantity: 1; Unity Gain Bandwidth Product: 1.2MHz; Bandwidth: 1.2MHz; Number of Channels: 4; Operating Supply Voltage: 16V; Number of Amplifiers: 4; Length: 8.65mm; Height: 1.58mm; Width: 3.91mm; Radiation Hardening: No; Lead Free: Lead Free; REACH SVHC: No SVHC; ComponentLink2URL: https://datasheet.ciiva.com/15129/getdatasheetpartid-49910-15129970.pdf?src-supplier=Verical; ComponentLink2Description: https://datasheet.ciiva.com/15129/getdatasheetpartid-49910-15129970.pdf?src-supplier=Verical; ComponentLink3URL: https://datasheet.ciiva.com/1795/lm224-1795586.pdf?src-supplier=Digi-Key; ComponentLink3Description: https://datasheet.ciiva.com/1795/lm224-1795586.pdf?src-supplier=Digi-Key; ComponentLink4URL: https://datasheet.ciiva.com/1795/lm224-1795587.pdf?src-supplier=Digi-Key; ComponentLink4Description: https://datasheet.ciiva.com/1795/lm224-1795587.pdf?src-supplier=Digi-Key; ComponentLink5URL: https://datasheet.ciiva.com/1795/lm224-1795588.pdf?src-supplier=Digi-Key; ComponentLink5Description: https://datasheet.ciiva.com/1795/lm224-1795588.pdf?src-supplier=Digi-Key; ComponentLink6URL: https://datasheet.ciiva.com/48706/001072200-da-01-en-ic-opamp-gp-1-2mhz-lm224adr-soic-14-tid-48706629.pdf?src-supplier=Conrad; ComponentLink6Description: https://datasheet.ciiva.com/48706/001072200-da-01-en-ic-opamp-gp-1-2mhz-lm224adr-soic-14-tid-48706629.pdf?src-supplier=Conrad
footprint NB SOIC-14 (SOIC, 14-Leads, Body 8.65x3.90mm, Pitch 1.27mm, IPC Medium Density)
part A pins: 1 1OUT (out), 2 1IN- (in), 3 1IN+ (in), 4 VDD (power), 11 VSS (power)
part B pins: 4 VDD (power), 5 2IN+ (in), 6 2IN- (in), 7 2OUT (out), 11 VSS (power)
part C pins: 4 VDD (power), 8 3OUT (out), 9 3IN- (in), 10 3IN+ (in), 11 VSS (power)
part D pins: 4 VDD (power), 11 VSS (power), 12 4IN+ (in), 13 4IN- (in), 14 4OUT (out)
part A text: A
part B text: B
part C text: C
part D text: D

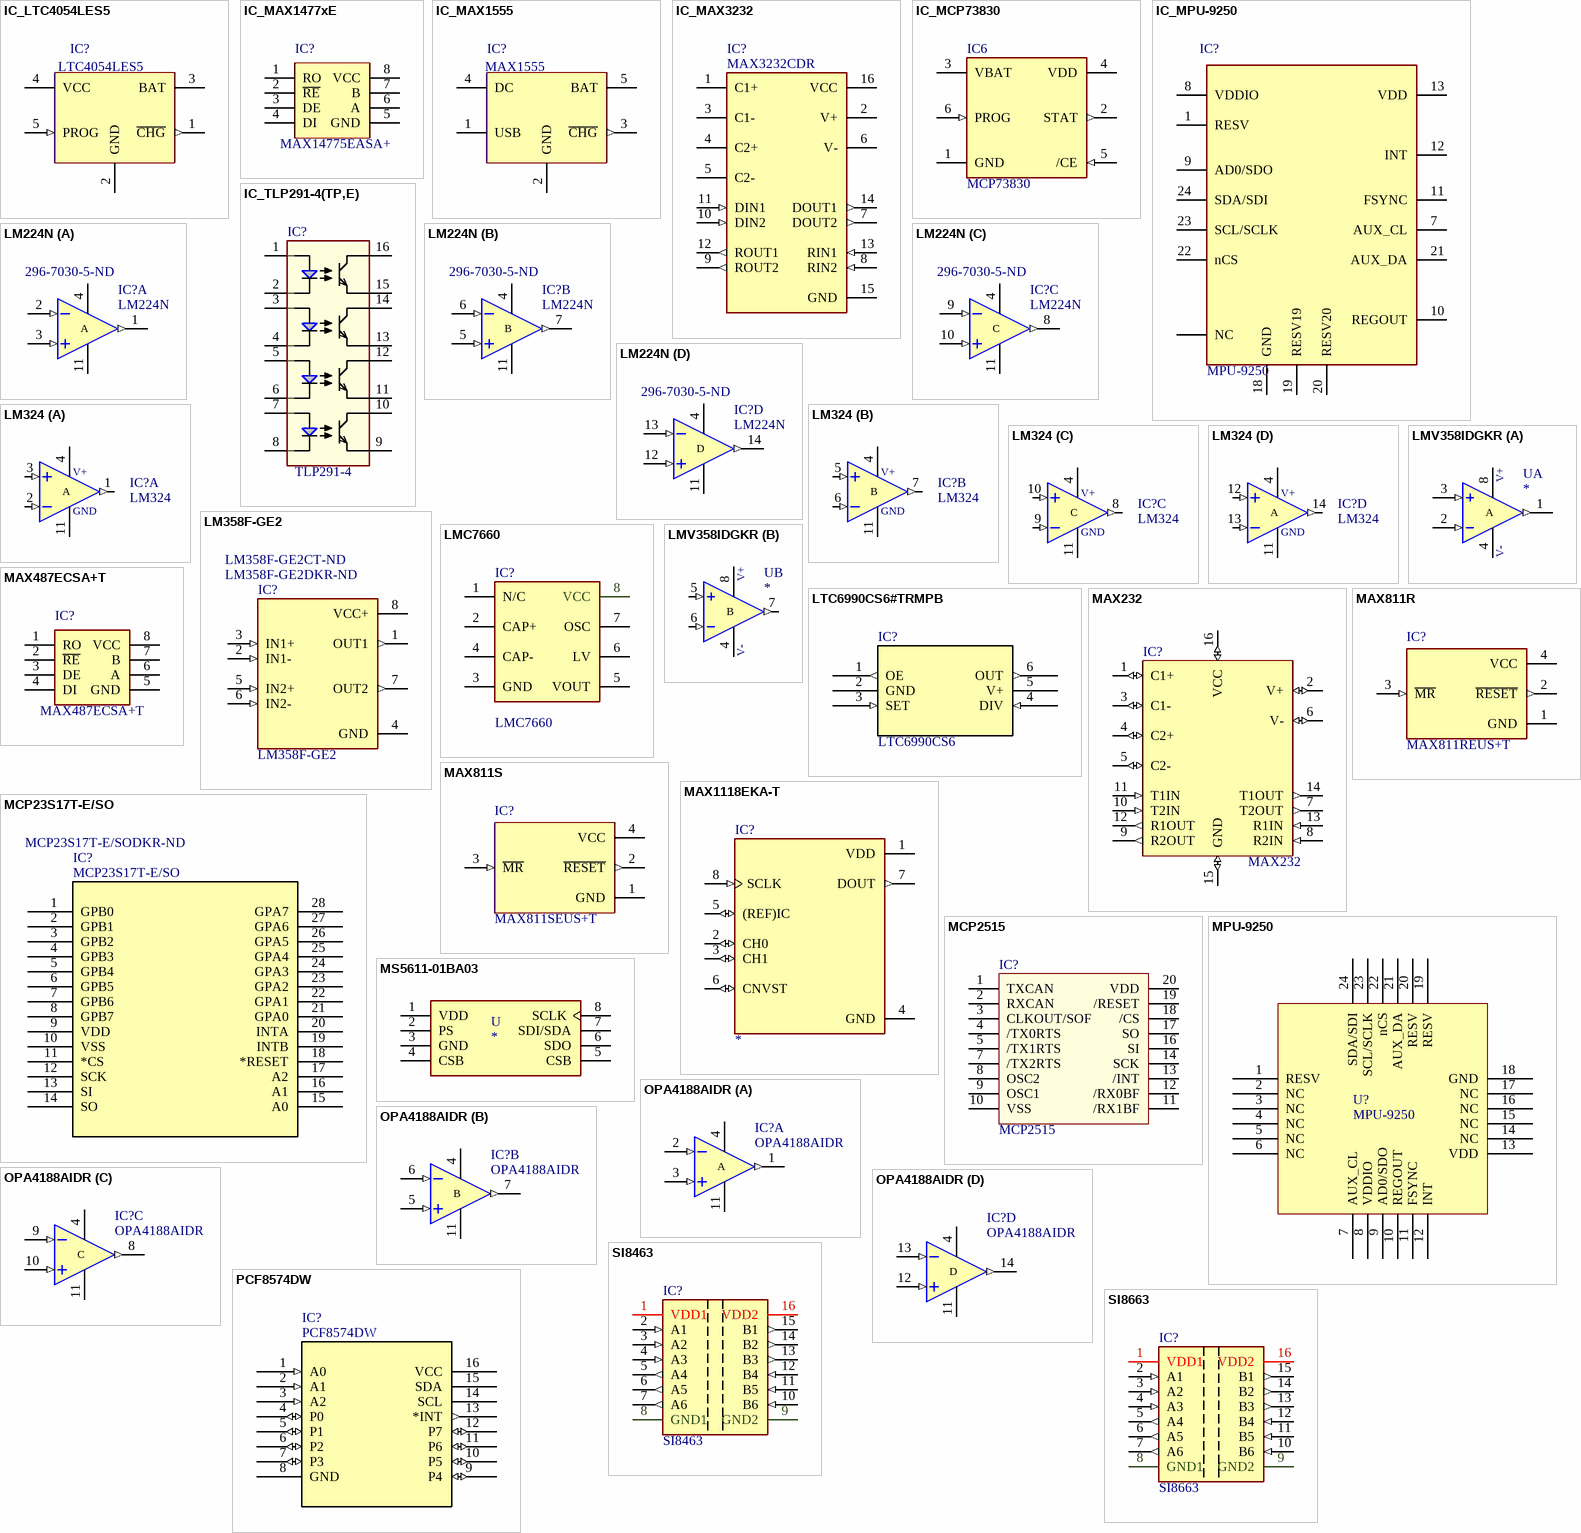
[diagram p1: symbols IC_LTC4054LES5 to SI8663]

## IC_LTC4054LES5
designator IC?, comment LTC4054LES5
IC CHARG BATTERY L-ION TSOT23-5; MPN: LTC4054LES5-4.2#TRPBF; Manufacturer: Analog Devices / Linear Technology; Fabricante: LINEAR; Value: LTC4054LES5-4.2#TRPBF; Output Current: 150mA; Output Voltage: 4.2V; Min Supply Voltage: 4.25V; Max Supply Voltage: 6.5V; Number of Cells: 1; Footprint: TSOT-23-5; ComponentLink1Description: LOJA; ComponentLink1URL: https://www.digikey.com/product-detail/en/linear-technology-analog-devices/LTC4054LES5-4.2-TRPBF/LTC4054LES5-4.2-TRPBFCT-ND/1888452; ComponentLink2Description: DATASHEET; ComponentLink2URL: https://www.analog.com/media/en/technical-documentation/data-sheets/4054l42fa.pdf; Supplier 1: Digi-Key; Supplier Part Number 1: LTC4054LES5-4.2#TRPBFCT-ND; Manufacturer Part Number: LTC4054LES5-4.2#TRPBF; Stock 1: 1694; Pricing 1: 1=3,59000, 25=2,21000, 100=1,98650 (USD); RoHS: Yes; Case/Package: SOT-23-5; Number of Pins: 5; Min Operating Temperature: -40°C; Max Operating Temperature: 85°C; Package Quantity: 1; Packaging: Tape and Reel; Max Input Voltage: 6.5V; Min Input Voltage: 4.25V; Max Charge Current: 150mA; REACH SVHC: No SVHC; Lead Free: Lead Free; ComponentLink3URL: https://datasheet.ciiva.com/1496/downloaddocument-donavid-h0-c1-c1003-c1037-c1078-c1088-p2294-d2288-1496806.pdf?src-supplier=Farnell; ComponentLink3Description: https://datasheet.ciiva.com/1496/downloaddocument-donavid-h0-c1-c1003-c1037-c1078-c1088-p2294-d2288-1496806.pdf?src-supplier=Farnell; ComponentLink4URL: https://datasheet.ciiva.com/26874/ltc4054les5-4-2-trpbf-26874065.pdf?src-supplier=IIIC; ComponentLink4Description: https://datasheet.ciiva.com/26874/ltc4054les5-4-2-trpbf-26874065.pdf?src-supplier=IIIC; ComponentLink5URL: https://datasheet.ciiva.com/1490/1726039-1490084.pdf?src-supplier=Element14; ComponentLink5Description: https://datasheet.ciiva.com/1490/1726039-1490084.pdf?src-supplier=Element14; ComponentLink6URL: https://datasheet.ciiva.com/1932/4054l42fa-1932023.pdf?src-supplier=Digi-Key; ComponentLink6Description: https://datasheet.ciiva.com/1932/4054l42fa-1932023.pdf?src-supplier=Digi-Key; ComponentLink7URL: https://datasheet.ciiva.com/1932/4054l42fa-1932024.pdf?src-supplier=Digi-Key; ComponentLink7Description: https://datasheet.ciiva.com/1932/4054l42fa-1932024.pdf?src-supplier=Digi-Key; ComponentLink8URL: https://datasheet.ciiva.com/1932/4054l42fa-1932025.pdf?src-supplier=Digi-Key; ComponentLink8Description: https://datasheet.ciiva.com/1932/4054l42fa-1932025.pdf?src-supplier=Digi-Key
footprint SOT23-5 (SOT23, 5-Leads, Body 2,90x2,80mm, Pitch 0,95mm, IPC Medium Density)
pins: 1 ~{CHG} (out), 2 GND (power), 3 BAT (power), 4 VCC (power), 5 PROG (in)

## IC_MAX1477xE
designator IC?, comment MAX14775EASA+
1/1 Transceiver Half RS422, RS485 8-SOIC; Manufacturer: Maxim; Fabricante: Maxim Integrated; Simplex/Duplex: Half Duplex; Receiver Hysteresis: 250mV; Data Rate: 20Mbps; MPN: MAX14775EASA+; Value: MAX14775EASA+; Footprint: SOIC 8; ComponentLink1Description: LOJA; ComponentLink1URL: https://www.digikey.com/products/en/integrated-circuits-ics/interface-drivers-receivers-transceivers/710?k=MAX14775&k=&pkeyword=MAX14775&sv=0&pv1291=294926&sf=0&FV=-8%7C710&quantity=&ColumnSort=0&page=1&stock=1&pageSize=25; ComponentLink2Description: DATASHEET; ComponentLink2URL: https://datasheets.maximintegrated.com/en/ds/MAX14775E-MAX14776E.pdf; Supplier 1: Digi-Key; Supplier Part Number 1: MAX14775EASA+-ND; Manufacturer Part Number: MAX14775EASA+; Stock 1: 689; Pricing 1: 1=4,30000, 10=3,88300, 25=3,70280, 100=3,41790 (USD); RoHS: No; Mount: Surface Mount; Case/Package: SOIC; Min Operating Temperature: -40°C; Max Operating Temperature: 125°C; Packaging: Bulk; ComponentLink3URL: http://www.farnell.com/datasheets/2189451.pdf?src-supplier=Farnell; ComponentLink3Description: http://www.farnell.com/datasheets/2189451.pdf?src-supplier=Farnell; ComponentLink4URL: https://datasheets.maximintegrated.com/en/ds/MAX14775E-MAX14776E.pdf?src-supplier=Digi-Key; ComponentLink4Description: https://datasheets.maximintegrated.com/en/ds/MAX14775E-MAX14776E.pdf?src-supplier=Digi-Key
footprint 8-SOIC_W,0.209" (SOIC, 8-Leads, Body 5,24x5,29mm, Pitch 1,27mm, IPC Medium Density)
pins: 1 RO, 2 ~{RE}, 3 DE, 4 DI, 5 GND (power), 6 A, 7 B, 8 VCC (power)

## IC_MAX1555
designator IC?, comment MAX1555
IC BATT CHRGR LI+ 1CELL SOT23-5; MPN: MAX1555EZK+T; Manufacturer: Maxim; Fabricante: ANALOG DEVICE; Value: MAX1555EZK+T; Output Current: 280mA; Output Voltage: 4.2V; Number of Cells: 1; Max Supply Voltage: 7V; Min Supply Voltage: 3.7V; Operating Supply Current: 1.75mA; Max Charge Current: 340mA; Footprint: SOT-23-5; ComponentLink1Description: LOJA; ComponentLink1URL: https://www.digikey.com/product-detail/en/maxim-integrated/MAX1555EZK-T/MAX1555EZK-TCT-ND/2699449; ComponentLink2Description: DATASHEET; ComponentLink2URL: https://datasheets.maximintegrated.com/en/ds/MAX1551-MAX1555.pdf; Supplier 1: Digi-Key; Supplier Part Number 1: MAX1555EZK+TCT-ND; Manufacturer Part Number: MAX1555EZK+T; Stock 1: 2855; Pricing 1: 1=1,86000, 10=1,67500, 25=1,58000, 100=1,26400, 250=1,10600, 500=1,07440, 1000=1,02700 (USD); RoHS: Yes; Case/Package: TSOT; Number of Pins: 5; Weight: 0.001058oz; Contact Plating: Tin,Matte; Min Operating Temperature: -40°C; Max Operating Temperature: 85°C; Package Quantity: 1; Max Output Current: 280mA; Max Input Voltage: 7V; Packaging: Tape and Reel; Max Output Voltage: 4.2V; Termination: SMD/SMT; Length: 3mm; Height: 0.9mm; Width: 1.65mm; Radiation Hardening: No; REACH SVHC: No SVHC; Lead Free: Lead Free; ComponentLink3URL: https://datasheet.ciiva.com/1496/max1551-max1555-1496864.pdf?src-supplier=Digi-Key; ComponentLink3Description: https://datasheet.ciiva.com/1496/max1551-max1555-1496864.pdf?src-supplier=Digi-Key; ComponentLink4URL: https://datasheet.ciiva.com/1496/max1551-max1555-1496864.pdf?src-supplier=Farnell; ComponentLink4Description: https://datasheet.ciiva.com/1496/max1551-max1555-1496864.pdf?src-supplier=Farnell; ComponentLink5URL: https://datasheet.ciiva.com/1140/1675715-1140145.pdf?src-supplier=Farnell; ComponentLink5Description: https://datasheet.ciiva.com/1140/1675715-1140145.pdf?src-supplier=Farnell; ComponentLink6URL: https://datasheet.ciiva.com/3215/max1551-max1555-3215034.pdf?src-supplier=Avnet; ComponentLink6Description: https://datasheet.ciiva.com/3215/max1551-max1555-3215034.pdf?src-supplier=Avnet; ComponentLink7URL: https://datasheet.ciiva.com/22697/1675715-22697066.pdf?src-supplier=Element14; ComponentLink7Description: https://datasheet.ciiva.com/22697/1675715-22697066.pdf?src-supplier=Element14; ComponentLink8URL: https://datasheet.ciiva.com/1137/1675715-1137612.pdf?src-supplier=Element14; ComponentLink8Description: https://datasheet.ciiva.com/1137/1675715-1137612.pdf?src-supplier=Element14; ComponentLink9URL: https://datasheet.ciiva.com/1932/max1551-max1555-1932958.pdf?src-supplier=Digi-Key; ComponentLink9Description: https://datasheet.ciiva.com/1932/max1551-max1555-1932958.pdf?src-supplier=Digi-Key; ComponentLink10URL: https://datasheet.ciiva.com/16466/max1551-max1555-16466078.pdf?src-supplier=Avnet+Asia; ComponentLink10Description: https://datasheet.ciiva.com/16466/max1551-max1555-16466078.pdf?src-supplier=Avnet+Asia; ComponentLink11URL: https://datasheet.ciiva.com/1490/max1551-max1555-1490182.pdf?src-supplier=Element14; ComponentLink11Description: https://datasheet.ciiva.com/1490/max1551-max1555-1490182.pdf?src-supplier=Element14; ComponentLink12URL: https://datasheet.ciiva.com/1932/max1551-max1555-1932959.pdf?src-supplier=Digi-Key; ComponentLink12Description: https://datasheet.ciiva.com/1932/max1551-max1555-1932959.pdf?src-supplier=Digi-Key; ComponentLink13URL: https://datasheet.ciiva.com/17299/max1551-max1555-17299615.pdf?src-supplier=Avnet+Europe; ComponentLink13Description: https://datasheet.ciiva.com/17299/max1551-max1555-17299615.pdf?src-supplier=Avnet+Europe
footprint SOT23-5 (SOT23, 5-Leads, Body 2,90x2,80mm, Pitch 0,95mm, IPC Medium Density)
pins: 1 USB (power), 2 GND (power), 3 ~{CHG} (out), 4 DC (power), 5 BAT (power)